# EAGLE library part ATTINY84 (library nixiemisc)
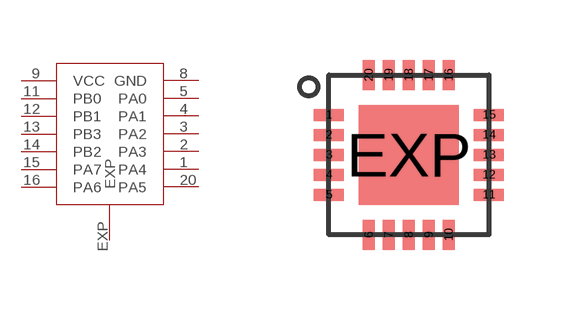
[diagram p18: symbol with the pads of QFN20; footprint QFN20]

Designator prefix M

## ATTINY84  [QFN20]
1  PA4  pas
2  PA3  pas
3  PA2  pas
4  PA1  pas
5  PA0  pas
8  GND  pwr
9  VCC  pwr
11  PB0  pas
12  PB1  pas
13  PB3  pas
14  PB2  pas
15  PA7  pas
16  PA6  pas
20  PA5  pas
EXP  EXP  pwr

## Footprint QFN20 (pad centres in mm)
smd 0.75 x 0.3: 1 -2,1; 2 -2,0.5; 3 -2,0; 4 -2,-0.5; 5 -2,-1; 11 2,-1; 12 2,-0.5; 13 2,0; 14 2,0.5; 15 2,1
smd 0.3 x 0.75: 6 -1,-2; 7 -0.5,-2; 8 0,-2; 9 0.5,-2; 10 1,-2; 16 1,2; 17 0.5,2; 18 0,2; 19 -0.5,2; 20 -1,2
smd 2.5 x 2.5: EXP 0,0